# EAGLE library part ATSAM4C32EA-AUR (library UltraLibrarian)
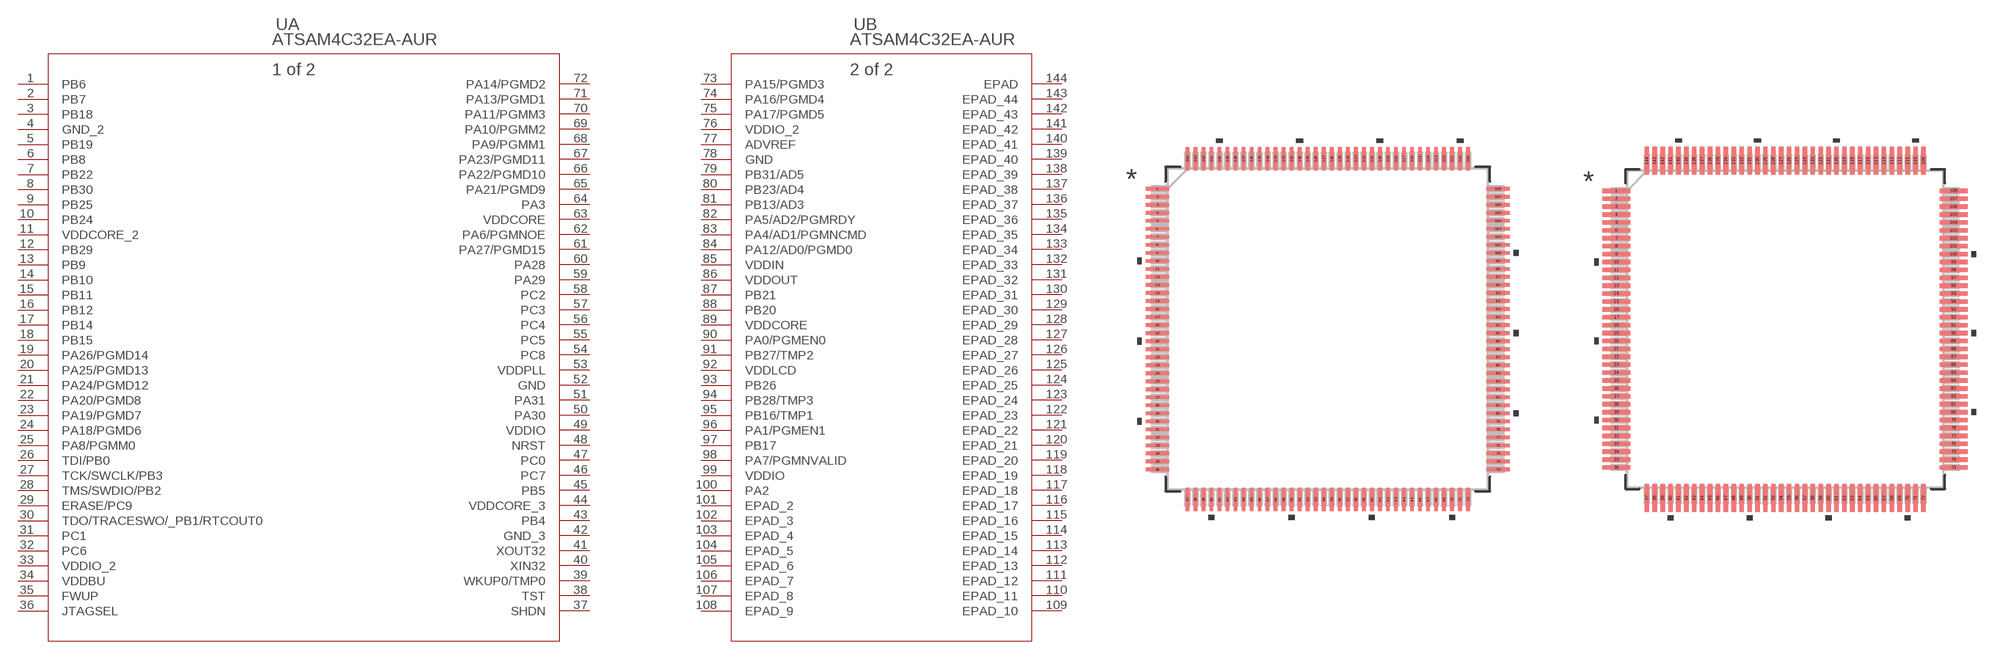
[diagram p0: symbol with the pads of LQFP144_20X20MC_MCH; footprints LQFP144_20X20MC_MCH, LQFP144_20X20MC_MCH-M]

Designator prefix U; gates A=ATSAM4C32EA-AUR_A B=ATSAM4C32EA-AUR_B

## ATSAM4C32EA-AUR (BUILT_BY: EMA_Molly; COPYRIGHT: Copyright (C) 2018 Accelerated Designs. All rights reserved; MANUFACTURER_PART_NUMBER: ATSAM4C32EA-AUR; SOURCELIBRARY: Microchip_2019-08-23_24; VENDOR: Microchip)  [LQFP144_20X20MC_MCH]
1  A:PB6
2  A:PB7
3  A:PB18
4  A:GND_2  pas
5  A:PB19
6  A:PB8
7  A:PB22
8  A:PB30
9  A:PB25
10  A:PB24
11  A:VDDCORE_2  pwr
12  A:PB29
13  A:PB9
14  A:PB10
15  A:PB11
16  A:PB12
17  A:PB14
18  A:PB15
19  A:PA26/PGMD14
20  A:PA25/PGMD13
21  A:PA24/PGMD12
22  A:PA20/PGMD8
23  A:PA19/PGMD7
24  A:PA18/PGMD6
25  A:PA8/PGMM0
26  A:TDI/PB0  pas
27  A:TCK/SWCLK/PB3  pas
28  A:TMS/SWDIO/PB2  pas
29  A:ERASE/PC9  pas
30  A:TDO/TRACESWO/_PB1/RTCOUT0  out
31  A:PC1
32  A:PC6
33  A:VDDIO_2  pwr
34  A:VDDBU  pwr
35  A:FWUP  pas
36  A:JTAGSEL  pas
37  A:SHDN  pas
38  A:TST  pas
39  A:WKUP0/TMP0  pas
40  A:XIN32  in
41  A:XOUT32  out
42  A:GND_3  pas
43  A:PB4
44  A:VDDCORE_3  pwr
45  A:PB5
46  A:PC7
47  A:PC0
48  A:NRST  pas
49  A:VDDIO  pwr
50  A:PA30
51  A:PA31
52  A:GND  pas
53  A:VDDPLL  pwr
54  A:PC8
55  A:PC5
56  A:PC4
57  A:PC3
58  A:PC2
59  A:PA29
60  A:PA28
61  A:PA27/PGMD15
62  A:PA6/PGMNOE
63  A:VDDCORE  pwr
64  A:PA3
65  A:PA21/PGMD9
66  A:PA22/PGMD10
67  A:PA23/PGMD11
68  A:PA9/PGMM1
69  A:PA10/PGMM2
70  A:PA11/PGMM3
71  A:PA13/PGMD1
72  A:PA14/PGMD2
73  B:PA15/PGMD3
74  B:PA16/PGMD4
75  B:PA17/PGMD5
76  B:VDDIO_2  pwr
77  B:ADVREF  pwr
78  B:GND  pas
79  B:PB31/AD5
80  B:PB23/AD4
81  B:PB13/AD3
82  B:PA5/AD2/PGMRDY
83  B:PA4/AD1/PGMNCMD
84  B:PA12/AD0/PGMD0
85  B:VDDIN  pwr
86  B:VDDOUT  out
87  B:PB21
88  B:PB20
89  B:VDDCORE  pwr
90  B:PA0/PGMEN0
91  B:PB27/TMP2
92  B:VDDLCD  pwr
93  B:PB26
94  B:PB28/TMP3
95  B:PB16/TMP1
96  B:PA1/PGMEN1
97  B:PB17
98  B:PA7/PGMNVALID
99  B:VDDIO  pwr
100  B:PA2
101  B:EPAD_2  pas
102  B:EPAD_3  pas
103  B:EPAD_4  pas
104  B:EPAD_5  pas
105  B:EPAD_6  pas
106  B:EPAD_7  pas
107  B:EPAD_8  pas
108  B:EPAD_9  pas
109  B:EPAD_10  pas
110  B:EPAD_11  pas
111  B:EPAD_12  pas
112  B:EPAD_13  pas
113  B:EPAD_14  pas
114  B:EPAD_15  pas
115  B:EPAD_16  pas
116  B:EPAD_17  pas
117  B:EPAD_18  pas
118  B:EPAD_19  pas
119  B:EPAD_20  pas
120  B:EPAD_21  pas
121  B:EPAD_22  pas
122  B:EPAD_23  pas
123  B:EPAD_24  pas
124  B:EPAD_25  pas
125  B:EPAD_26  pas
126  B:EPAD_27  pas
127  B:EPAD_28  pas
128  B:EPAD_29  pas
129  B:EPAD_30  pas
130  B:EPAD_31  pas
131  B:EPAD_32  pas
132  B:EPAD_33  pas
133  B:EPAD_34  pas
134  B:EPAD_35  pas
135  B:EPAD_36  pas
136  B:EPAD_37  pas
137  B:EPAD_38  pas
138  B:EPAD_39  pas
139  B:EPAD_40  pas
140  B:EPAD_41  pas
141  B:EPAD_42  pas
142  B:EPAD_43  pas
143  B:EPAD_44  pas
144  B:EPAD  pas

## ATSAM4C32EA-AURLQFP144_20X20MC_MCH-M (BUILT_BY: EMA_Molly; COPYRIGHT: Copyright (C) 2018 Accelerated Designs. All rights reserved; MANUFACTURER_PART_NUMBER: ATSAM4C32EA-AUR; SOURCELIBRARY: Microchip_2019-08-23_24; VENDOR: Microchip)  [LQFP144_20X20MC_MCH-M]
Pads as for LQFP144_20X20MC_MCH

## ATSAM4C32EA-AURLQFP144_20X20MC_MCH-L (BUILT_BY: EMA_Molly; COPYRIGHT: Copyright (C) 2018 Accelerated Designs. All rights reserved; MANUFACTURER_PART_NUMBER: ATSAM4C32EA-AUR; SOURCELIBRARY: Microchip_2019-08-23_24; VENDOR: Microchip)  [LQFP144_20X20MC_MCH-L]
Pads as for LQFP144_20X20MC_MCH

## Footprint LQFP144_20X20MC_MCH (pad centres in mm)
smd 1.473 x 0.229: 1 -10.617,8.75; 2 -10.617,8.25; 3 -10.617,7.75; 4 -10.617,7.25; 5 -10.617,6.75; 6 -10.617,6.25; 7 -10.617,5.75; 8 -10.617,5.25; 9 -10.617,4.75; 10 -10.617,4.25; 11 -10.617,3.75; 12 -10.617,3.25; 13 -10.617,2.75; 14 -10.617,2.25; 15 -10.617,1.75; 16 -10.617,1.25; 17 -10.617,0.75; 18 -10.617,0.25; 19 -10.617,-0.25; 20 -10.617,-0.75; 21 -10.617,-1.25; 22 -10.617,-1.75; 23 -10.617,-2.25; 24 -10.617,-2.75; 25 -10.617,-3.25; 26 -10.617,-3.75; 27 -10.617,-4.25; 28 -10.617,-4.75; 29 -10.617,-5.25; 30 -10.617,-5.75; 31 -10.617,-6.25; 32 -10.617,-6.75; 33 -10.617,-7.25; 34 -10.617,-7.75; 35 -10.617,-8.25; 36 -10.617,-8.75; 73 10.617,-8.75; 74 10.617,-8.25; 75 10.617,-7.75; 76 10.617,-7.25; 77 10.617,-6.75; 78 10.617,-6.25; 79 10.617,-5.75; 80 10.617,-5.25; 81 10.617,-4.75; 82 10.617,-4.25; 83 10.617,-3.75; 84 10.617,-3.25; 85 10.617,-2.75; 86 10.617,-2.25; 87 10.617,-1.75; 88 10.617,-1.25; 89 10.617,-0.75; 90 10.617,-0.25; 91 10.617,0.25; 92 10.617,0.75; 93 10.617,1.25; 94 10.617,1.75; 95 10.617,2.25; 96 10.617,2.75; 97 10.617,3.25; 98 10.617,3.75; 99 10.617,4.25; 100 10.617,4.75; 101 10.617,5.25; 102 10.617,5.75; 103 10.617,6.25; 104 10.617,6.75; 105 10.617,7.25; 106 10.617,7.75; 107 10.617,8.25; 108 10.617,8.75
smd 0.229 x 1.473: 37 -8.75,-10.617; 38 -8.25,-10.617; 39 -7.75,-10.617; 40 -7.25,-10.617; 41 -6.75,-10.617; 42 -6.25,-10.617; 43 -5.75,-10.617; 44 -5.25,-10.617; 45 -4.75,-10.617; 46 -4.25,-10.617; 47 -3.75,-10.617; 48 -3.25,-10.617; 49 -2.75,-10.617; 50 -2.25,-10.617; 51 -1.75,-10.617; 52 -1.25,-10.617; 53 -0.75,-10.617; 54 -0.25,-10.617; 55 0.25,-10.617; 56 0.75,-10.617; 57 1.25,-10.617; 58 1.75,-10.617; 59 2.25,-10.617; 60 2.75,-10.617; 61 3.25,-10.617; 62 3.75,-10.617; 63 4.25,-10.617; 64 4.75,-10.617; 65 5.25,-10.617; 66 5.75,-10.617; 67 6.25,-10.617; 68 6.75,-10.617; 69 7.25,-10.617; 70 7.75,-10.617; 71 8.25,-10.617; 72 8.75,-10.617; 109 8.75,10.617; 110 8.25,10.617; 111 7.75,10.617; 112 7.25,10.617; 113 6.75,10.617; 114 6.25,10.617; 115 5.75,10.617; 116 5.25,10.617; 117 4.75,10.617; 118 4.25,10.617; 119 3.75,10.617; 120 3.25,10.617; 121 2.75,10.617; 122 2.25,10.617; 123 1.75,10.617; 124 1.25,10.617; 125 0.75,10.617; 126 0.25,10.617; 127 -0.25,10.617; 128 -0.75,10.617; 129 -1.25,10.617; 130 -1.75,10.617; 131 -2.25,10.617; 132 -2.75,10.617; 133 -3.25,10.617; 134 -3.75,10.617; 135 -4.25,10.617; 136 -4.75,10.617; 137 -5.25,10.617; 138 -5.75,10.617; 139 -6.25,10.617; 140 -6.75,10.617; 141 -7.25,10.617; 142 -7.75,10.617; 143 -8.25,10.617; 144 -8.75,10.617

## Footprint LQFP144_20X20MC_MCH-M (pad centres in mm)
smd 1.778 x 0.279: 1 -10.668,8.75; 2 -10.668,8.25; 3 -10.668,7.75; 4 -10.668,7.25; 5 -10.668,6.75; 6 -10.668,6.25; 7 -10.668,5.75; 8 -10.668,5.25; 9 -10.668,4.75; 10 -10.668,4.25; 11 -10.668,3.75; 12 -10.668,3.25; 13 -10.668,2.75; 14 -10.668,2.25; 15 -10.668,1.75; 16 -10.668,1.25; 17 -10.668,0.75; 18 -10.668,0.25; 19 -10.668,-0.25; 20 -10.668,-0.75; 21 -10.668,-1.25; 22 -10.668,-1.75; 23 -10.668,-2.25; 24 -10.668,-2.75; 25 -10.668,-3.25; 26 -10.668,-3.75; 27 -10.668,-4.25; 28 -10.668,-4.75; 29 -10.668,-5.25; 30 -10.668,-5.75; 31 -10.668,-6.25; 32 -10.668,-6.75; 33 -10.668,-7.25; 34 -10.668,-7.75; 35 -10.668,-8.25; 36 -10.668,-8.75; 73 10.668,-8.75; 74 10.668,-8.25; 75 10.668,-7.75; 76 10.668,-7.25; 77 10.668,-6.75; 78 10.668,-6.25; 79 10.668,-5.75; 80 10.668,-5.25; 81 10.668,-4.75; 82 10.668,-4.25; 83 10.668,-3.75; 84 10.668,-3.25; 85 10.668,-2.75; 86 10.668,-2.25; 87 10.668,-1.75; 88 10.668,-1.25; 89 10.668,-0.75; 90 10.668,-0.25; 91 10.668,0.25; 92 10.668,0.75; 93 10.668,1.25; 94 10.668,1.75; 95 10.668,2.25; 96 10.668,2.75; 97 10.668,3.25; 98 10.668,3.75; 99 10.668,4.25; 100 10.668,4.75; 101 10.668,5.25; 102 10.668,5.75; 103 10.668,6.25; 104 10.668,6.75; 105 10.668,7.25; 106 10.668,7.75; 107 10.668,8.25; 108 10.668,8.75
smd 0.279 x 1.778: 37 -8.75,-10.668; 38 -8.25,-10.668; 39 -7.75,-10.668; 40 -7.25,-10.668; 41 -6.75,-10.668; 42 -6.25,-10.668; 43 -5.75,-10.668; 44 -5.25,-10.668; 45 -4.75,-10.668; 46 -4.25,-10.668; 47 -3.75,-10.668; 48 -3.25,-10.668; 49 -2.75,-10.668; 50 -2.25,-10.668; 51 -1.75,-10.668; 52 -1.25,-10.668; 53 -0.75,-10.668; 54 -0.25,-10.668; 55 0.25,-10.668; 56 0.75,-10.668; 57 1.25,-10.668; 58 1.75,-10.668; 59 2.25,-10.668; 60 2.75,-10.668; 61 3.25,-10.668; 62 3.75,-10.668; 63 4.25,-10.668; 64 4.75,-10.668; 65 5.25,-10.668; 66 5.75,-10.668; 67 6.25,-10.668; 68 6.75,-10.668; 69 7.25,-10.668; 70 7.75,-10.668; 71 8.25,-10.668; 72 8.75,-10.668; 109 8.75,10.668; 110 8.25,10.668; 111 7.75,10.668; 112 7.25,10.668; 113 6.75,10.668; 114 6.25,10.668; 115 5.75,10.668; 116 5.25,10.668; 117 4.75,10.668; 118 4.25,10.668; 119 3.75,10.668; 120 3.25,10.668; 121 2.75,10.668; 122 2.25,10.668; 123 1.75,10.668; 124 1.25,10.668; 125 0.75,10.668; 126 0.25,10.668; 127 -0.25,10.668; 128 -0.75,10.668; 129 -1.25,10.668; 130 -1.75,10.668; 131 -2.25,10.668; 132 -2.75,10.668; 133 -3.25,10.668; 134 -3.75,10.668; 135 -4.25,10.668; 136 -4.75,10.668; 137 -5.25,10.668; 138 -5.75,10.668; 139 -6.25,10.668; 140 -6.75,10.668; 141 -7.25,10.668; 142 -7.75,10.668; 143 -8.25,10.668; 144 -8.75,10.668

## Footprint LQFP144_20X20MC_MCH-L (pad centres in mm)
smd 1.168 x 0.178: 1 -10.566,8.75; 2 -10.566,8.25; 3 -10.566,7.75; 4 -10.566,7.25; 5 -10.566,6.75; 6 -10.566,6.25; 7 -10.566,5.75; 8 -10.566,5.25; 9 -10.566,4.75; 10 -10.566,4.25; 11 -10.566,3.75; 12 -10.566,3.25; 13 -10.566,2.75; 14 -10.566,2.25; 15 -10.566,1.75; 16 -10.566,1.25; 17 -10.566,0.75; 18 -10.566,0.25; 19 -10.566,-0.25; 20 -10.566,-0.75; 21 -10.566,-1.25; 22 -10.566,-1.75; 23 -10.566,-2.25; 24 -10.566,-2.75; 25 -10.566,-3.25; 26 -10.566,-3.75; 27 -10.566,-4.25; 28 -10.566,-4.75; 29 -10.566,-5.25; 30 -10.566,-5.75; 31 -10.566,-6.25; 32 -10.566,-6.75; 33 -10.566,-7.25; 34 -10.566,-7.75; 35 -10.566,-8.25; 36 -10.566,-8.75; 73 10.566,-8.75; 74 10.566,-8.25; 75 10.566,-7.75; 76 10.566,-7.25; 77 10.566,-6.75; 78 10.566,-6.25; 79 10.566,-5.75; 80 10.566,-5.25; 81 10.566,-4.75; 82 10.566,-4.25; 83 10.566,-3.75; 84 10.566,-3.25; 85 10.566,-2.75; 86 10.566,-2.25; 87 10.566,-1.75; 88 10.566,-1.25; 89 10.566,-0.75; 90 10.566,-0.25; 91 10.566,0.25; 92 10.566,0.75; 93 10.566,1.25; 94 10.566,1.75; 95 10.566,2.25; 96 10.566,2.75; 97 10.566,3.25; 98 10.566,3.75; 99 10.566,4.25; 100 10.566,4.75; 101 10.566,5.25; 102 10.566,5.75; 103 10.566,6.25; 104 10.566,6.75; 105 10.566,7.25; 106 10.566,7.75; 107 10.566,8.25; 108 10.566,8.75
smd 0.178 x 1.168: 37 -8.75,-10.566; 38 -8.25,-10.566; 39 -7.75,-10.566; 40 -7.25,-10.566; 41 -6.75,-10.566; 42 -6.25,-10.566; 43 -5.75,-10.566; 44 -5.25,-10.566; 45 -4.75,-10.566; 46 -4.25,-10.566; 47 -3.75,-10.566; 48 -3.25,-10.566; 49 -2.75,-10.566; 50 -2.25,-10.566; 51 -1.75,-10.566; 52 -1.25,-10.566; 53 -0.75,-10.566; 54 -0.25,-10.566; 55 0.25,-10.566; 56 0.75,-10.566; 57 1.25,-10.566; 58 1.75,-10.566; 59 2.25,-10.566; 60 2.75,-10.566; 61 3.25,-10.566; 62 3.75,-10.566; 63 4.25,-10.566; 64 4.75,-10.566; 65 5.25,-10.566; 66 5.75,-10.566; 67 6.25,-10.566; 68 6.75,-10.566; 69 7.25,-10.566; 70 7.75,-10.566; 71 8.25,-10.566; 72 8.75,-10.566; 109 8.75,10.566; 110 8.25,10.566; 111 7.75,10.566; 112 7.25,10.566; 113 6.75,10.566; 114 6.25,10.566; 115 5.75,10.566; 116 5.25,10.566; 117 4.75,10.566; 118 4.25,10.566; 119 3.75,10.566; 120 3.25,10.566; 121 2.75,10.566; 122 2.25,10.566; 123 1.75,10.566; 124 1.25,10.566; 125 0.75,10.566; 126 0.25,10.566; 127 -0.25,10.566; 128 -0.75,10.566; 129 -1.25,10.566; 130 -1.75,10.566; 131 -2.25,10.566; 132 -2.75,10.566; 133 -3.25,10.566; 134 -3.75,10.566; 135 -4.25,10.566; 136 -4.75,10.566; 137 -5.25,10.566; 138 -5.75,10.566; 139 -6.25,10.566; 140 -6.75,10.566; 141 -7.25,10.566; 142 -7.75,10.566; 143 -8.25,10.566; 144 -8.75,10.566